# EAGLE library part NRF52832-QFAA-G-R7 (library NRF52832-QFAA-G-R7)
RF System on a Chip - SoC Versatile Bluetooth 5.3 SoC supporting Bluetooth Low Energy, Bluetooth mesh and NFC Source: Datasheet <https://infocenter.nordicsemi.com/pdf/nRF52832_PS_v1.8.pdf>
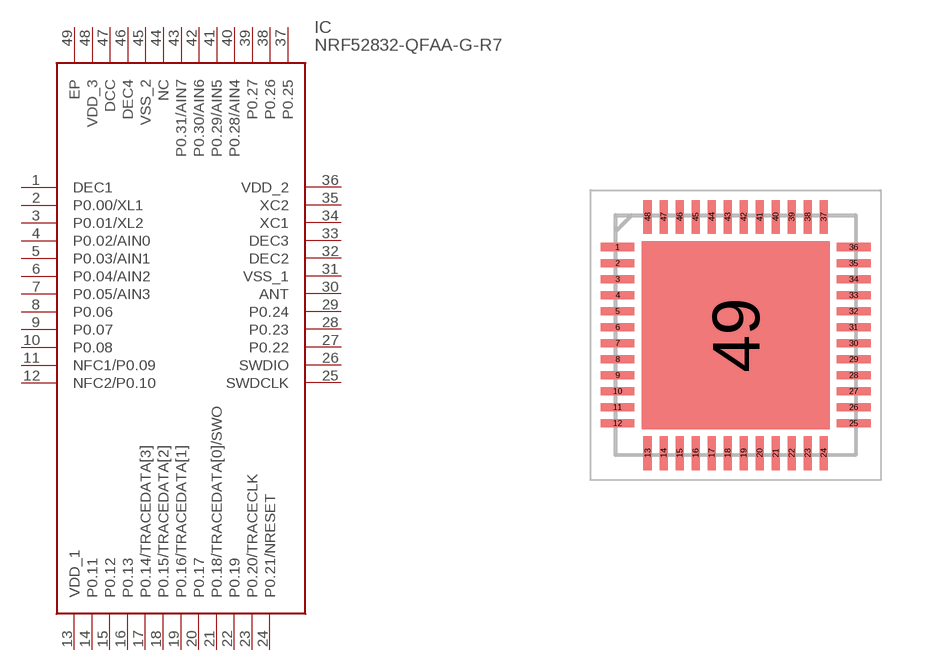
[diagram p0: symbol with the pads of QFN40P600X600X95-49N; footprint QFN40P600X600X95-49N]

Designator prefix IC

## NRF52832-QFAA-G-R7 (Description: RF System on a Chip - SoC Versatile Bluetooth 5.3 SoC supporting Bluetooth Low Energy, Bluetooth mesh and NFC; Height: 0.95mm; Manufacturer_Name: Nordic Semiconductor; Manufacturer_Part_Number: NRF52832-QFAA-G-R7; Mouser_Part_Number: 949-NRF52832QFAAG-R7; Mouser_Price-Stock: https://www.mouser.co.uk/ProductDetail/Nordic-Semiconductor/NRF52832-QFAA-G-R7?qs=iLbezkQI%252BsiMpMdgrsoFbQ%3D%3D)  [QFN40P600X600X95-49N]
1  DEC1
2  P0.00/XL1
3  P0.01/XL2
4  P0.02/AIN0
5  P0.03/AIN1
6  P0.04/AIN2
7  P0.05/AIN3
8  P0.06
9  P0.07
10  P0.08
11  NFC1/P0.09
12  NFC2/P0.10
13  VDD_1
14  P0.11
15  P0.12
16  P0.13
17  P0.14/TRACEDATA[3]
18  P0.15/TRACEDATA[2]
19  P0.16/TRACEDATA[1]
20  P0.17
21  P0.18/TRACEDATA[0]/SWO
22  P0.19
23  P0.20/TRACECLK
24  P0.21/NRESET
25  SWDCLK
26  SWDIO
27  P0.22
28  P0.23
29  P0.24
30  ANT
31  VSS_1
32  DEC2
33  DEC3
34  XC1
35  XC2
36  VDD_2
37  P0.25
38  P0.26
39  P0.27
40  P0.28/AIN4
41  P0.29/AIN5
42  P0.30/AIN6
43  P0.31/AIN7
44  NC  nc
45  VSS_2
46  DEC4
47  DCC
48  VDD_3
49  EP

## Footprint QFN40P600X600X95-49N (pad centres in mm)
QFN48 6 x 6 mm package
smd 0.85 x 0.2: 1 -2.95,2.2; 2 -2.95,1.8; 3 -2.95,1.4; 4 -2.95,1; 5 -2.95,0.6; 6 -2.95,0.2; 7 -2.95,-0.2; 8 -2.95,-0.6; 9 -2.95,-1; 10 -2.95,-1.4; 11 -2.95,-1.8; 12 -2.95,-2.2; 25 2.95,-2.2; 26 2.95,-1.8; 27 2.95,-1.4; 28 2.95,-1; 29 2.95,-0.6; 30 2.95,-0.2; 31 2.95,0.2; 32 2.95,0.6; 33 2.95,1; 34 2.95,1.4; 35 2.95,1.8; 36 2.95,2.2
smd 0.2 x 0.85: 13 -2.2,-2.95; 14 -1.8,-2.95; 15 -1.4,-2.95; 16 -1,-2.95; 17 -0.6,-2.95; 18 -0.2,-2.95; 19 0.2,-2.95; 20 0.6,-2.95; 21 1,-2.95; 22 1.4,-2.95; 23 1.8,-2.95; 24 2.2,-2.95; 37 2.2,2.95; 38 1.8,2.95; 39 1.4,2.95; 40 1,2.95; 41 0.6,2.95; 42 0.2,2.95; 43 -0.2,2.95; 44 -0.6,2.95; 45 -1,2.95; 46 -1.4,2.95; 47 -1.8,2.95; 48 -2.2,2.95
smd 4.7 x 4.7: 49 0,0